# Altium integrated library TI Amplifiers and Linear Special Function Amplifier.IntLib: 708 symbols (part 11 of 47)
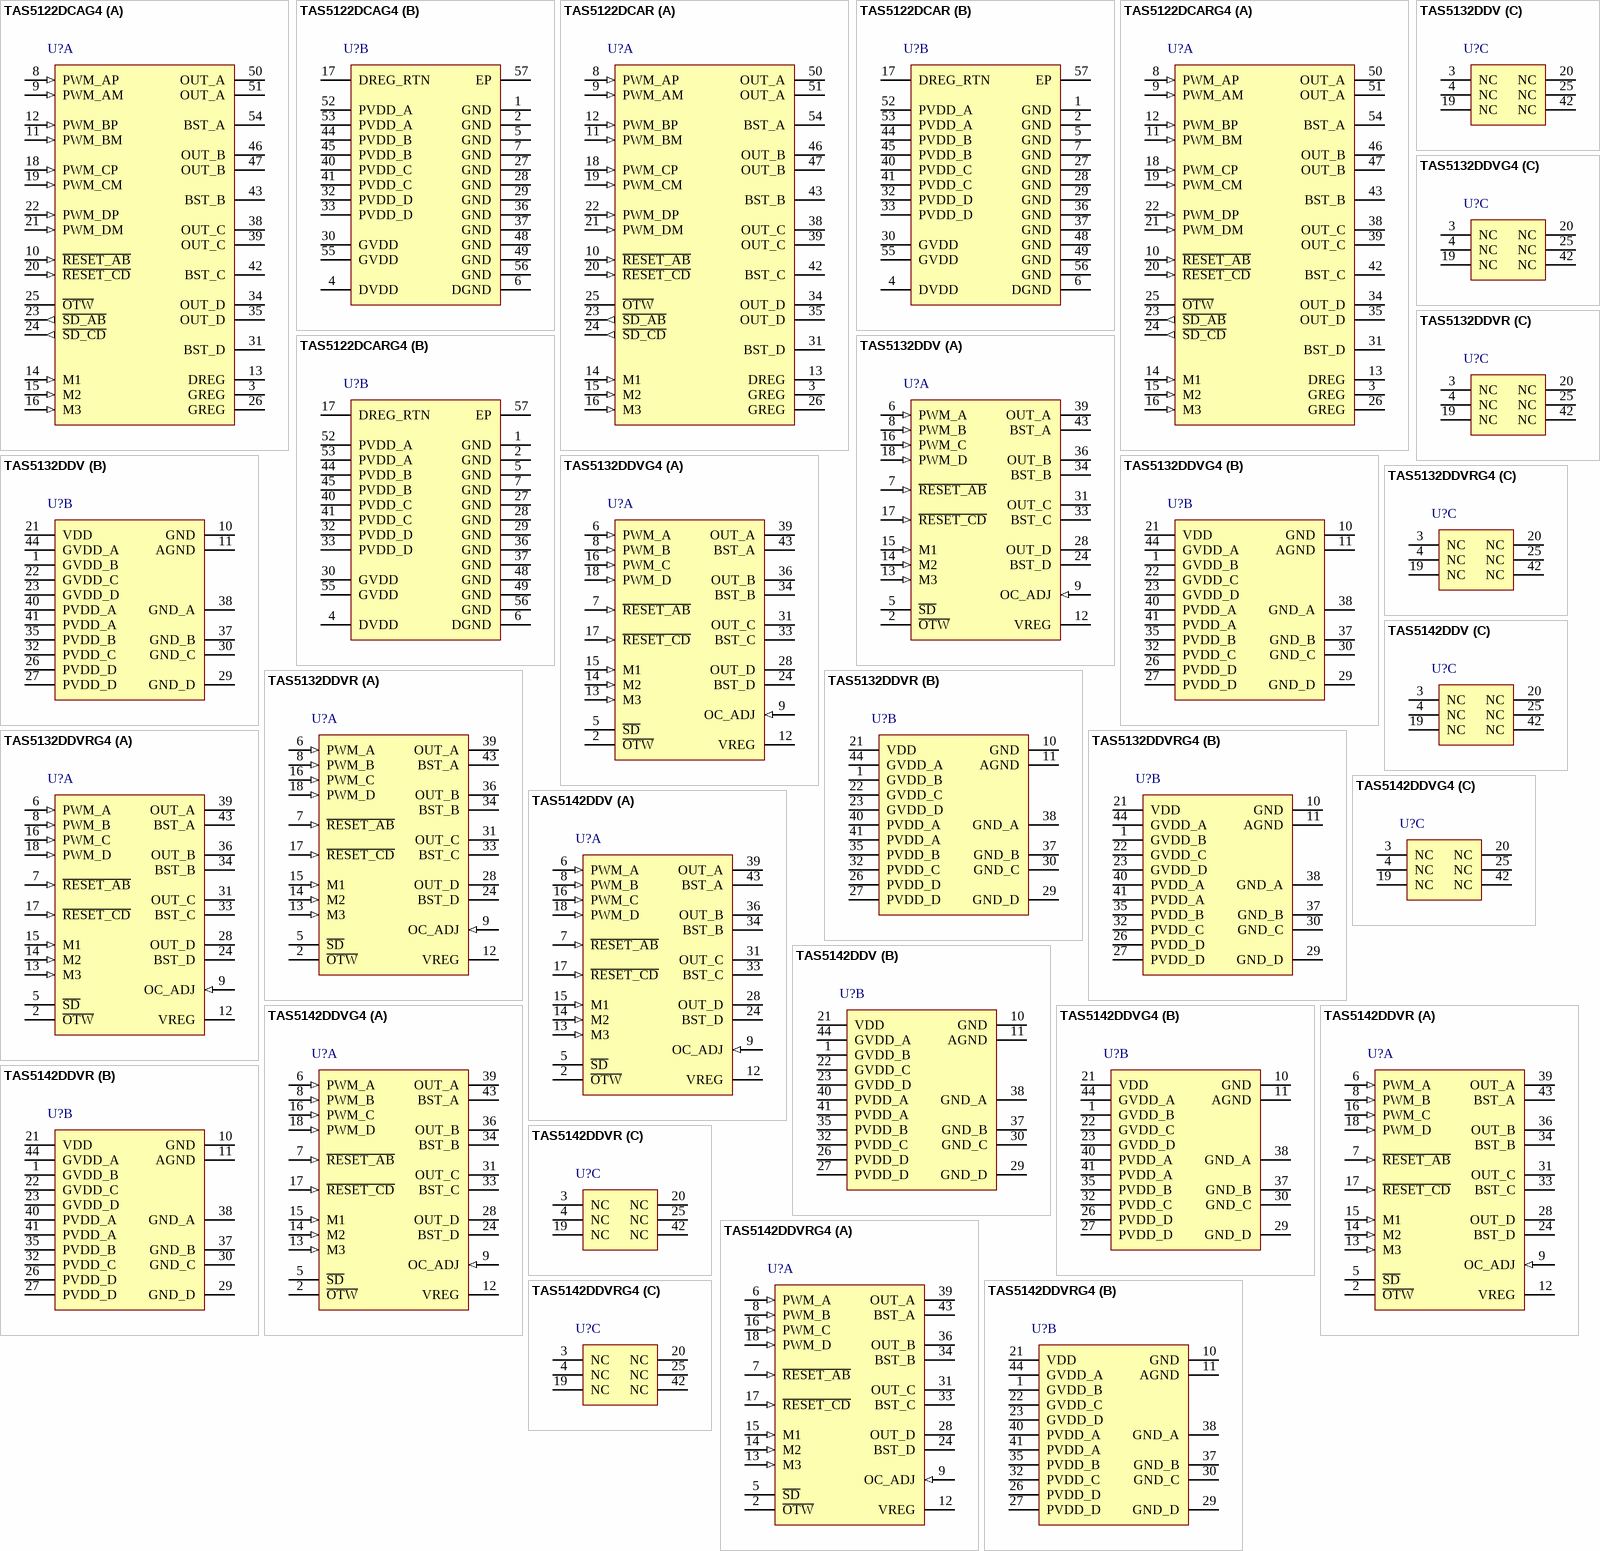
[diagram p49: symbols TAS5122DCAG4 to TAS5142DDVRG4]

## TAS5132DDVRG4
designator U?
20 W Stereo Digital Amplifier Power Stage, 0 to 70 degC, 44-pin SOP (TDDV44), Green (RoHS & no Sb/Br); Manufacturer: Texas Instruments; PartNumber: TAS5132DDVRG4; Analog Supply Max [V]: 13.2; Analog Supply Min [V]: 10.8; Input Type: PWM; Max. Number of Speaker Outputs: 4; SubFamily: Mid/High-Power Amplifier; DatasheetVersion: SLES190; PackageVersion: 4206011/G, 06/2011; PackageReference: TDDV44-5375X2375TP; PackageDescription: 44-Pin Plastic Small Outline, Body 6.1 x 14 mm, Pitch 0.635 mm; Supplier 1: Digi-Key; Supplier Part Number 1: TAS5132DDVRG4-ND; Supplier 2: Newark; Supplier Part Number 2: 28M7695; Supplier 3: Mouser; Supplier Part Number 3: 595-TAS5132DDVRG4; Eco-Plan: Green (RoHS & no Sb/Br); Mounting Technology: Surface Mount; ComponentLink1Description: Manufacturer URL; ComponentLink1URL: http://www.ti.com/; ComponentLink2Description: Datasheet; ComponentLink2URL: http://www.ti.com/general/docs/lit/getliterature.tsp?genericPartNumber=TAS5132&fileType=pdf; ComponentLink3Description: Package Specification; ComponentLink3URL: http://www.ti.com/lit/ds/symlink/tas5132.pdf
footprint TI-DDV44-5375X2375TP_N (SOP, 44-Leads, Body 14x6.1mm, Pitch 0.635mm, Thermal Pad 5.7x2.7mm, IPC Medium Density)
footprint TI-DDV44-5375X2375TP_L (SOP, 44-Leads, Body 14x6.1mm, Pitch 0.635mm, Thermal Pad 5.7x2.7mm, IPC High Density)
footprint TI-DDV44-5375X2375TP_M (SOP, 44-Leads, Body 14x6.1mm, Pitch 0.635mm, Thermal Pad 5.7x2.7mm, IPC Low Density)
part A pins: 2 ~{OTW} (oc) "Overtemperature warning signal, open-drain, active-low", 5 ~{SD} (oc) "Shutdown signal, open-drain, active-low", 6 PWM_A (in) "Input signal for half-bridge A", 7 ~{RESET_AB} (in) "Reset signal for half-bridge A and half-bridge B, active-low", 8 PWM_B (in) "Input signal for half-bridge B", 9 OC_ADJ (in) "Analog overcurrent programming pin requires resistor to ground", 12 VREG "Digital regulator supply filter pin requires 0.1-uFcapacitor to AGND.", 13 M3 (in) "Mode selection pin", 14 M2 (in) "Mode selection pin", 15 M1 (in) "Mode selection pin", 16 PWM_C (in) "Input signal for half-bridge C", 17 ~{RESET_CD} (in) "Reset signal for half-bridge C and half-bridge D, active-low", 18 PWM_D (in) "Input signal for half-bridge D", 24 BST_D "HS bootstrap supply (BST), external capacitor to OUT_D required", 28 OUT_D (hiz) "Output, half-bridge D", 31 OUT_C (hiz) "Output, half-bridge C", 33 BST_C "HS bootstrap supply (BST), external capacitor to OUT_C required", 34 BST_B "HS bootstrap supply (BST), external capacitor to OUT_B required", 36 OUT_B (hiz) "Output, half-bridge B", 39 OUT_A (hiz) "Output, half-bridge A", 43 BST_A "HS bootstrap supply (BST), external capacitor to OUT_A required"
part B pins: 1 GVDD_B (power) "Gate-drive voltage supply requires 0.1-uFcapacitor to AGND", 10 GND (power) "Ground", 11 AGND (power) "Analog ground", 21 VDD (power) "Power supply for digital voltage regulator requires 0.1-uFcapacitor to GND", 22 GVDD_C (power) "Gate-drive voltage supply requires 0.1-uFcapacitor to AGND", 23 GVDD_D (power) "Gate-drive voltage supply requires 0.1-uFcapacitor to AGND", 26 PVDD_D (power) "Power supply input for half-bridge D requires close decoupling of 0.1-uFcapacitor to GND_D.", 27 PVDD_D (power) "Power supply input for half-bridge D requires close decoupling of 0.1-uFcapacitor to GND_D.", 29 GND_D (power) "Power ground for half-bridge D", 30 GND_C (power) "Power ground for half-bridge C", 32 PVDD_C (power) "Power supply input for half-bridge C requires close decoupling of 0.1-uFcapacitor to GND_C.", 35 PVDD_B (power) "Power supply input for half-bridge B requires close decoupling of 0.1-uFcapacitor to GND_B.", 37 GND_B (power) "Power ground for half-bridge B", 38 GND_A (power) "Power ground for half-bridge A", 40 PVDD_A (power) "Power supply input for half-bridge A requires close decoupling of 0.1-uFcapacitor to GND_A.", 41 PVDD_A (power) "Power supply input for half-bridge A requires close decoupling of 0.1-uFcapacitor to GND_A.", 44 GVDD_A (power) "Gate-drive voltage supply requires 0.1-uFcapacitor to AGND"
part C pins: 3 NC "No connect. Pins may be grounded", 4 NC "No connect. Pins may be grounded", 19 NC "No connect. Pins may be grounded", 20 NC "No connect. Pins may be grounded", 25 NC "No connect. Pins may be grounded", 42 NC "No connect. Pins may be grounded"

## TAS5142DDV
designator U?
100 W Stereo Digital Amplifier Power Stage, 0 to 70 degC, 44-pin SOP (DDV44), Green (RoHS & no Sb/Br); Manufacturer: Texas Instruments; PartNumber: TAS5142DDV; Analog Supply Max [V]: 13.2; Analog Supply Min [V]: 10.8; Input Type: PWM; Max. Number of Speaker Outputs: 4; SubFamily: Mid/High-Power Amplifier; DatasheetVersion: SLES126B; PackageVersion: 4206011/G, 06/2011; PackageReference: DDV44-7600X3850TP; PackageDescription: 44-Pin Plastic Small Outline, Body 14 x 6.1 mm, Pitch 0.635 mm; Supplier 1: Digi-Key; Supplier Part Number 1: 296-18033-5-ND; Supplier 2: Newark; Supplier Part Number 2: 33K6866; Supplier 3: Mouser; Supplier Part Number 3: 595-TAS5142DDV; Eco-Plan: Green (RoHS & no Sb/Br); Mounting Technology: Surface Mount; ComponentLink1Description: Manufacturer URL; ComponentLink1URL: http://www.ti.com/; ComponentLink2Description: Datasheet; ComponentLink2URL: http://www.ti.com/general/docs/lit/getliterature.tsp?genericPartNumber=TAS5142&fileType=pdf; ComponentLink3Description: Package Specification; ComponentLink3URL: http://www.ti.com/lit/ds/symlink/tas5142.pdf
footprint TI-DDV44-7600X3850TP _N (SOP, 44-Leads, Body 14x6.1mm, Pitch 0.635mm, Thermal Pad 8.3x4.2mm, IPC Medium Density)
footprint TI-DDV44-7600X3850TP _L (SOP, 44-Leads, Body 14x6.1mm, Pitch 0.635mm, Thermal Pad 8.3x4.2mm, IPC High Density)
footprint TI-DDV44-7600X3850TP _M (SOP, 44-Leads, Body 14x6.1mm, Pitch 0.635mm, Thermal Pad 8.3x4.2mm, IPC Low Density)
part A pins: 2 ~{OTW} (oc) "Overtemperature warning signal, open-drain, active-low", 5 ~{SD} (oc) "Shutdown signal, open-drain, active-low", 6 PWM_A (in) "Input signal for half-bridge A", 7 ~{RESET_AB} (in) "Reset signal for half-bridge A and half-bridge B, active-low", 8 PWM_B (in) "Input signal for half-bridge B", 9 OC_ADJ (in) "Analog overcurrent programming pin", 12 VREG, 13 M3 (in) "Mode selection pin", 14 M2 (in) "Mode selection pin", 15 M1 (in) "Mode selection pin", 16 PWM_C (in) "Input signal for half-bridge C", 17 ~{RESET_CD} (in) "Reset signal for half-bridge C and half-bridge D, active-low", 18 PWM_D (in) "Input signal for half-bridge D", 24 BST_D "Bootstrap pin", 28 OUT_D (hiz) "Output, half-bridge D", 31 OUT_C (hiz) "Output, half-bridge C", 33 BST_C "Bootstrap pin, C-Side", 34 BST_B "Bootstrap pin, B-Side", 36 OUT_B (hiz) "Output, half-bridge B", 39 OUT_A (hiz) "Output, half-bridge A", 43 BST_A "Bootstrap pin, A-Side"
part B pins: 1 GVDD_B (power) "Gate-drive voltage supply", 10 GND (power) "Ground", 11 AGND (power) "Analog ground", 21 VDD (power) "Input power supply", 22 GVDD_C (power) "Gate-drive voltage supply", 23 GVDD_D (power) "Gate-drive voltage supply", 26 PVDD_D (power) "Power supply input for half-bridge D", 27 PVDD_D (power) "Power supply input for half-bridge D", 29 GND_D (power) "Power ground for half-bridge D", 30 GND_C (power) "Power ground for half-bridge C", 32 PVDD_C (power) "Power supply input for half-bridge C", 35 PVDD_B (power) "Power supply input for half-bridge B", 37 GND_B (power) "Power ground for half-bridge B", 38 GND_A (power) "Power ground for half-bridge A", 40 PVDD_A (power) "Power supply input for half-bridge A", 41 PVDD_A (power) "Power supply input for half-bridge A", 44 GVDD_A (power) "Gate-drive voltage supply; A-Side"
part C pins: 3 NC "No connect. Pins may be grounded.", 4 NC "No connect. Pins may be grounded.", 19 NC "No connect. Pins may be grounded.", 20 NC "No connect. Pins may be grounded.", 25 NC "No connect. Pins may be grounded.", 42 NC "No connect. Pins may be grounded."

## TAS5142DDVG4
designator U?
100 W Stereo Digital Amplifier Power Stage, 0 to 70 degC, 44-pin SOP (DDV44), Green (RoHS & no Sb/Br); Manufacturer: Texas Instruments; PartNumber: TAS5142DDVG4; Analog Supply Max [V]: 13.2; Analog Supply Min [V]: 10.8; Input Type: PWM; Max. Number of Speaker Outputs: 4; SubFamily: Mid/High-Power Amplifier; DatasheetVersion: SLES126B; PackageVersion: 4206011/G, 06/2011; PackageReference: DDV44-7600X3850TP; PackageDescription: 44-Pin Plastic Small Outline, Body 14 x 6.1 mm, Pitch 0.635 mm; Supplier 1: Digi-Key; Supplier Part Number 1: TAS5142DDVG4-ND; Supplier 2: Mouser; Supplier Part Number 2: 595-TAS5142DDVG4; Eco-Plan: Green (RoHS & no Sb/Br); Mounting Technology: Surface Mount; ComponentLink1Description: Manufacturer URL; ComponentLink1URL: http://www.ti.com/; ComponentLink2Description: Datasheet; ComponentLink2URL: http://www.ti.com/general/docs/lit/getliterature.tsp?genericPartNumber=TAS5142&fileType=pdf; ComponentLink3Description: Package Specification; ComponentLink3URL: http://www.ti.com/lit/ds/symlink/tas5142.pdf
footprint TI-DDV44-7600X3850TP _N (SOP, 44-Leads, Body 14x6.1mm, Pitch 0.635mm, Thermal Pad 8.3x4.2mm, IPC Medium Density)
footprint TI-DDV44-7600X3850TP _L (SOP, 44-Leads, Body 14x6.1mm, Pitch 0.635mm, Thermal Pad 8.3x4.2mm, IPC High Density)
footprint TI-DDV44-7600X3850TP _M (SOP, 44-Leads, Body 14x6.1mm, Pitch 0.635mm, Thermal Pad 8.3x4.2mm, IPC Low Density)
part A pins: 2 ~{OTW} (oc) "Overtemperature warning signal, open-drain, active-low", 5 ~{SD} (oc) "Shutdown signal, open-drain, active-low", 6 PWM_A (in) "Input signal for half-bridge A", 7 ~{RESET_AB} (in) "Reset signal for half-bridge A and half-bridge B, active-low", 8 PWM_B (in) "Input signal for half-bridge B", 9 OC_ADJ (in) "Analog overcurrent programming pin", 12 VREG, 13 M3 (in) "Mode selection pin", 14 M2 (in) "Mode selection pin", 15 M1 (in) "Mode selection pin", 16 PWM_C (in) "Input signal for half-bridge C", 17 ~{RESET_CD} (in) "Reset signal for half-bridge C and half-bridge D, active-low", 18 PWM_D (in) "Input signal for half-bridge D", 24 BST_D "Bootstrap pin", 28 OUT_D (hiz) "Output, half-bridge D", 31 OUT_C (hiz) "Output, half-bridge C", 33 BST_C "Bootstrap pin, C-Side", 34 BST_B "Bootstrap pin, B-Side", 36 OUT_B (hiz) "Output, half-bridge B", 39 OUT_A (hiz) "Output, half-bridge A", 43 BST_A "Bootstrap pin, A-Side"
part B pins: 1 GVDD_B (power) "Gate-drive voltage supply", 10 GND (power) "Ground", 11 AGND (power) "Analog ground", 21 VDD (power) "Input power supply", 22 GVDD_C (power) "Gate-drive voltage supply", 23 GVDD_D (power) "Gate-drive voltage supply", 26 PVDD_D (power) "Power supply input for half-bridge D", 27 PVDD_D (power) "Power supply input for half-bridge D", 29 GND_D (power) "Power ground for half-bridge D", 30 GND_C (power) "Power ground for half-bridge C", 32 PVDD_C (power) "Power supply input for half-bridge C", 35 PVDD_B (power) "Power supply input for half-bridge B", 37 GND_B (power) "Power ground for half-bridge B", 38 GND_A (power) "Power ground for half-bridge A", 40 PVDD_A (power) "Power supply input for half-bridge A", 41 PVDD_A (power) "Power supply input for half-bridge A", 44 GVDD_A (power) "Gate-drive voltage supply; A-Side"
part C pins: 3 NC "No connect. Pins may be grounded.", 4 NC "No connect. Pins may be grounded.", 19 NC "No connect. Pins may be grounded.", 20 NC "No connect. Pins may be grounded.", 25 NC "No connect. Pins may be grounded.", 42 NC "No connect. Pins may be grounded."

## TAS5142DDVR
designator U?
100 W Stereo Digital Amplifier Power Stage, 0 to 70 degC, 44-pin SOP (DDV44), Green (RoHS & no Sb/Br); Manufacturer: Texas Instruments; PartNumber: TAS5142DDVR; Analog Supply Max [V]: 13.2; Analog Supply Min [V]: 10.8; Input Type: PWM; Max. Number of Speaker Outputs: 4; SubFamily: Mid/High-Power Amplifier; DatasheetVersion: SLES126B; PackageVersion: 4206011/G, 06/2011; PackageReference: DDV44-7600X3850TP; PackageDescription: 44-Pin Plastic Small Outline, Body 14 x 6.1 mm, Pitch 0.635 mm; Supplier 1: Digi-Key; Supplier Part Number 1: TAS5142DDVR-ND; Supplier 2: Newark; Supplier Part Number 2: 33K6868; Supplier 3: Mouser; Supplier Part Number 3: 595-TAS5142DDVR; Eco-Plan: Green (RoHS & no Sb/Br); Mounting Technology: Surface Mount; ComponentLink1Description: Manufacturer URL; ComponentLink1URL: http://www.ti.com/; ComponentLink2Description: Datasheet; ComponentLink2URL: http://www.ti.com/general/docs/lit/getliterature.tsp?genericPartNumber=TAS5142&fileType=pdf; ComponentLink3Description: Package Specification; ComponentLink3URL: http://www.ti.com/lit/ds/symlink/tas5142.pdf
footprint TI-DDV44-7600X3850TP _N (SOP, 44-Leads, Body 14x6.1mm, Pitch 0.635mm, Thermal Pad 8.3x4.2mm, IPC Medium Density)
footprint TI-DDV44-7600X3850TP _L (SOP, 44-Leads, Body 14x6.1mm, Pitch 0.635mm, Thermal Pad 8.3x4.2mm, IPC High Density)
footprint TI-DDV44-7600X3850TP _M (SOP, 44-Leads, Body 14x6.1mm, Pitch 0.635mm, Thermal Pad 8.3x4.2mm, IPC Low Density)
part A pins: 2 ~{OTW} (oc) "Overtemperature warning signal, open-drain, active-low", 5 ~{SD} (oc) "Shutdown signal, open-drain, active-low", 6 PWM_A (in) "Input signal for half-bridge A", 7 ~{RESET_AB} (in) "Reset signal for half-bridge A and half-bridge B, active-low", 8 PWM_B (in) "Input signal for half-bridge B", 9 OC_ADJ (in) "Analog overcurrent programming pin", 12 VREG, 13 M3 (in) "Mode selection pin", 14 M2 (in) "Mode selection pin", 15 M1 (in) "Mode selection pin", 16 PWM_C (in) "Input signal for half-bridge C", 17 ~{RESET_CD} (in) "Reset signal for half-bridge C and half-bridge D, active-low", 18 PWM_D (in) "Input signal for half-bridge D", 24 BST_D "Bootstrap pin", 28 OUT_D (hiz) "Output, half-bridge D", 31 OUT_C (hiz) "Output, half-bridge C", 33 BST_C "Bootstrap pin, C-Side", 34 BST_B "Bootstrap pin, B-Side", 36 OUT_B (hiz) "Output, half-bridge B", 39 OUT_A (hiz) "Output, half-bridge A", 43 BST_A "Bootstrap pin, A-Side"
part B pins: 1 GVDD_B (power) "Gate-drive voltage supply", 10 GND (power) "Ground", 11 AGND (power) "Analog ground", 21 VDD (power) "Input power supply", 22 GVDD_C (power) "Gate-drive voltage supply", 23 GVDD_D (power) "Gate-drive voltage supply", 26 PVDD_D (power) "Power supply input for half-bridge D", 27 PVDD_D (power) "Power supply input for half-bridge D", 29 GND_D (power) "Power ground for half-bridge D", 30 GND_C (power) "Power ground for half-bridge C", 32 PVDD_C (power) "Power supply input for half-bridge C", 35 PVDD_B (power) "Power supply input for half-bridge B", 37 GND_B (power) "Power ground for half-bridge B", 38 GND_A (power) "Power ground for half-bridge A", 40 PVDD_A (power) "Power supply input for half-bridge A", 41 PVDD_A (power) "Power supply input for half-bridge A", 44 GVDD_A (power) "Gate-drive voltage supply; A-Side"
part C pins: 3 NC "No connect. Pins may be grounded.", 4 NC "No connect. Pins may be grounded.", 19 NC "No connect. Pins may be grounded.", 20 NC "No connect. Pins may be grounded.", 25 NC "No connect. Pins may be grounded.", 42 NC "No connect. Pins may be grounded."

## TAS5142DDVRG4
designator U?
100 W Stereo Digital Amplifier Power Stage, 0 to 70 degC, 44-pin SOP (DDV44), Green (RoHS & no Sb/Br); Manufacturer: Texas Instruments; PartNumber: TAS5142DDVRG4; Analog Supply Max [V]: 13.2; Analog Supply Min [V]: 10.8; Input Type: PWM; Max. Number of Speaker Outputs: 4; SubFamily: Mid/High-Power Amplifier; DatasheetVersion: SLES126B; PackageVersion: 4206011/G, 06/2011; PackageReference: DDV44-7600X3850TP; PackageDescription: 44-Pin Plastic Small Outline, Body 14 x 6.1 mm, Pitch 0.635 mm; Supplier 1: Digi-Key; Supplier Part Number 1: TAS5142DDVRG4-ND; Supplier 2: Mouser; Supplier Part Number 2: 595-TAS5142DDVRG4; Eco-Plan: Green (RoHS & no Sb/Br); Mounting Technology: Surface Mount; ComponentLink1Description: Manufacturer URL; ComponentLink1URL: http://www.ti.com/; ComponentLink2Description: Datasheet; ComponentLink2URL: http://www.ti.com/general/docs/lit/getliterature.tsp?genericPartNumber=TAS5142&fileType=pdf; ComponentLink3Description: Package Specification; ComponentLink3URL: http://www.ti.com/lit/ds/symlink/tas5142.pdf
footprint TI-DDV44-7600X3850TP _N (SOP, 44-Leads, Body 14x6.1mm, Pitch 0.635mm, Thermal Pad 8.3x4.2mm, IPC Medium Density)
footprint TI-DDV44-7600X3850TP _L (SOP, 44-Leads, Body 14x6.1mm, Pitch 0.635mm, Thermal Pad 8.3x4.2mm, IPC High Density)
footprint TI-DDV44-7600X3850TP _M (SOP, 44-Leads, Body 14x6.1mm, Pitch 0.635mm, Thermal Pad 8.3x4.2mm, IPC Low Density)
part A pins: 2 ~{OTW} (oc) "Overtemperature warning signal, open-drain, active-low", 5 ~{SD} (oc) "Shutdown signal, open-drain, active-low", 6 PWM_A (in) "Input signal for half-bridge A", 7 ~{RESET_AB} (in) "Reset signal for half-bridge A and half-bridge B, active-low", 8 PWM_B (in) "Input signal for half-bridge B", 9 OC_ADJ (in) "Analog overcurrent programming pin", 12 VREG, 13 M3 (in) "Mode selection pin", 14 M2 (in) "Mode selection pin", 15 M1 (in) "Mode selection pin", 16 PWM_C (in) "Input signal for half-bridge C", 17 ~{RESET_CD} (in) "Reset signal for half-bridge C and half-bridge D, active-low", 18 PWM_D (in) "Input signal for half-bridge D", 24 BST_D "Bootstrap pin", 28 OUT_D (hiz) "Output, half-bridge D", 31 OUT_C (hiz) "Output, half-bridge C", 33 BST_C "Bootstrap pin, C-Side", 34 BST_B "Bootstrap pin, B-Side", 36 OUT_B (hiz) "Output, half-bridge B", 39 OUT_A (hiz) "Output, half-bridge A", 43 BST_A "Bootstrap pin, A-Side"
part B pins: 1 GVDD_B (power) "Gate-drive voltage supply", 10 GND (power) "Ground", 11 AGND (power) "Analog ground", 21 VDD (power) "Input power supply", 22 GVDD_C (power) "Gate-drive voltage supply", 23 GVDD_D (power) "Gate-drive voltage supply", 26 PVDD_D (power) "Power supply input for half-bridge D", 27 PVDD_D (power) "Power supply input for half-bridge D", 29 GND_D (power) "Power ground for half-bridge D", 30 GND_C (power) "Power ground for half-bridge C", 32 PVDD_C (power) "Power supply input for half-bridge C", 35 PVDD_B (power) "Power supply input for half-bridge B", 37 GND_B (power) "Power ground for half-bridge B", 38 GND_A (power) "Power ground for half-bridge A", 40 PVDD_A (power) "Power supply input for half-bridge A", 41 PVDD_A (power) "Power supply input for half-bridge A", 44 GVDD_A (power) "Gate-drive voltage supply; A-Side"
part C pins: 3 NC "No connect. Pins may be grounded.", 4 NC "No connect. Pins may be grounded.", 19 NC "No connect. Pins may be grounded.", 20 NC "No connect. Pins may be grounded.", 25 NC "No connect. Pins may be grounded.", 42 NC "No connect. Pins may be grounded."

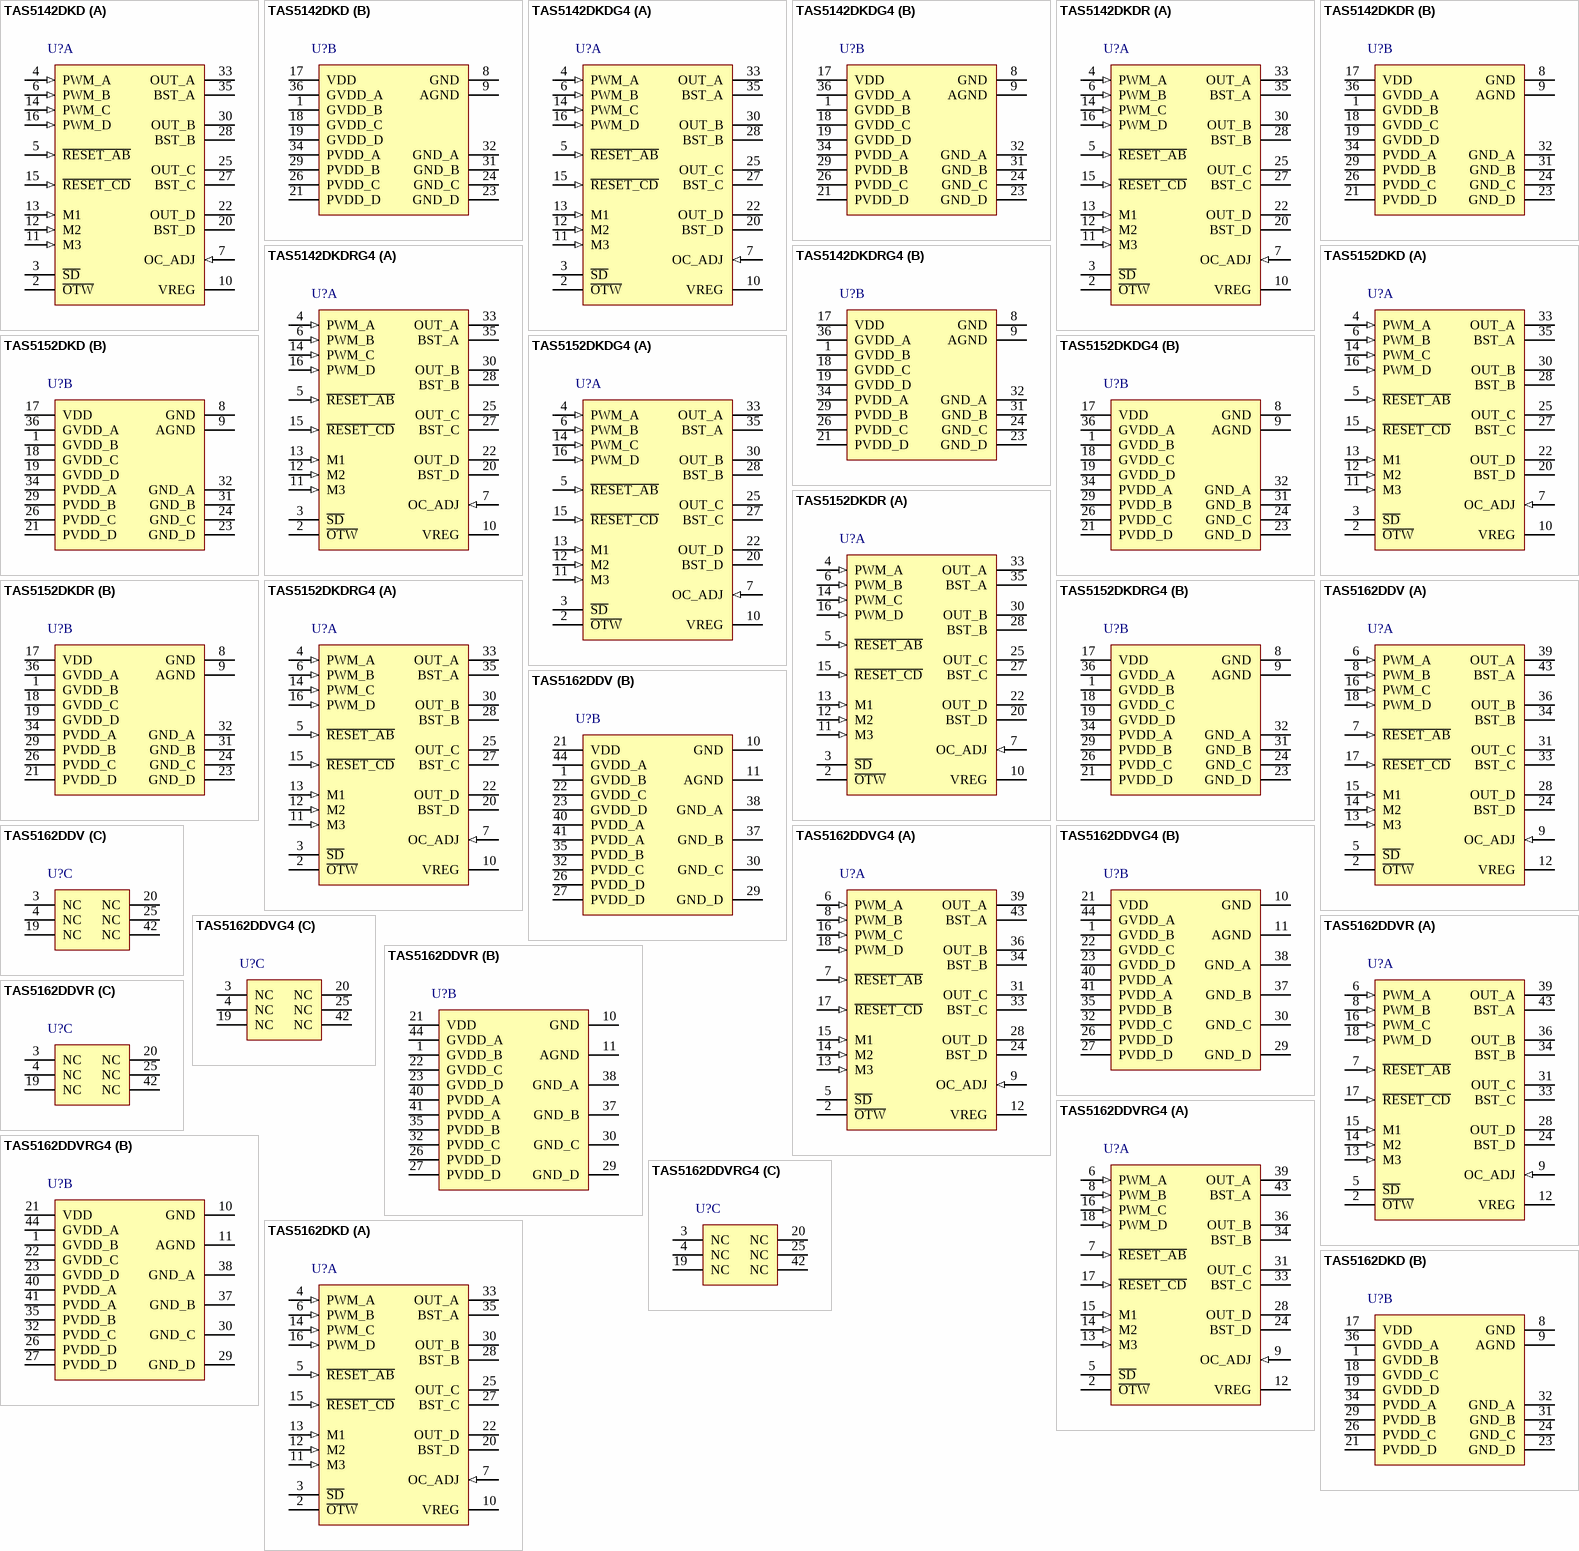
[diagram p10: symbols TAS5142DKD to TAS5162DKD]

## TAS5142DKD
designator U?
100 W Stereo Digital Amplifier Power Stage, 0 to 70 degC, 36-pin SOP (DKD36), Green (RoHS & no Sb/Br); Manufacturer: Texas Instruments; PartNumber: TAS5142DKD; Analog Supply Max [V]: 13.2; Analog Supply Min [V]: 10.8; Input Type: PWM; Max. Number of Speaker Outputs: 4; SubFamily: Mid/High-Power Amplifier; DatasheetVersion: SLES126B; PackageVersion: 4204421-2/K, 06/2012; PackageReference: DKD36; PackageDescription: 36-Pin Plastic Small Outline, Body 15.9 x 11 mm, Pitch 0.65 mm; Supplier 1: Digi-Key; Supplier Part Number 1: 296-17861-5-ND; Supplier 2: Newark; Supplier Part Number 2: 24K4913; Supplier 3: Mouser; Supplier Part Number 3: 595-TAS5142DKD; Eco-Plan: Green (RoHS & no Sb/Br); Mounting Technology: Surface Mount; ComponentLink1Description: Manufacturer URL; ComponentLink1URL: http://www.ti.com/; ComponentLink2Description: Datasheet; ComponentLink2URL: http://www.ti.com/general/docs/lit/getliterature.tsp?genericPartNumber=TAS5142&fileType=pdf; ComponentLink3Description: Package Specification; ComponentLink3URL: http://www.ti.com/lit/ds/symlink/tas5121i.pdf
footprint TI-DKD36_N (SOP, 36-Leads, Body 16x11.1mm, Pitch 0.65mm, IPC Medium Density)
footprint TI-DKD36_L (SOP, 36-Leads, Body 16x11.1mm, Pitch 0.65mm, IPC High Density)
footprint TI-DKD36_M (SOP, 36-Leads, Body 16x11.1mm, Pitch 0.65mm, IPC Low Density)
part A pins: 2 ~{OTW} (oc) "Overtemperature warning signal, open-drain, active-low", 3 ~{SD} (oc) "Shutdown signal, open-drain, active-low", 4 PWM_A (in) "Input signal for half-bridge A", 5 ~{RESET_AB} (in) "Reset signal for half-bridge A and half-bridge B, active-low", 6 PWM_B (in) "Input signal for half-bridge B", 7 OC_ADJ (in) "Analog overcurrent programming pin requires resistor to ground", 10 VREG "Digital regulator supply filter pin requires 0.1-uFcapacitor to AGND.", 11 M3 (in) "Mode selection pin", 12 M2 (in) "Mode selection pin", 13 M1 (in) "Mode selection pin", 14 PWM_C (in) "Input signal for half-bridge C", 15 ~{RESET_CD} (in) "Reset signal for half-bridge C and half-bridge D, active-low", 16 PWM_D (in) "Input signal for half-bridge D", 20 BST_D "HS bootstrap supply (BST), external capacitor to OUT_D required", 22 OUT_D (hiz) "Output, half-bridge D", 25 OUT_C (hiz) "Output, half-bridge C", 27 BST_C "HS bootstrap supply (BST), external capacitor to OUT_C required", 28 BST_B "HS bootstrap supply (BST), external capacitor to OUT_B required", 30 OUT_B (hiz) "Output, half-bridge B", 33 OUT_A (hiz) "Output, half-bridge A", 35 BST_A "HS bootstrap supply (BST), external capacitor to OUT_A required"
part B pins: 1 GVDD_B (power) "Gate-drive voltage supply requires 0.1-uFcapacitor to AGND", 8 GND (power) "Ground", 9 AGND (power) "Analog ground", 17 VDD (power) "Power supply for digital voltage regulator requires 0.1-uFcapacitor to GND", 18 GVDD_C (power) "Gate-drive voltage supply requires 0.1-uFcapacitor to AGND", 19 GVDD_D (power) "Gate-drive voltage supply requires 0.1-uFcapacitor to AGND", 21 PVDD_D (power) "Power supply input for half-bridge D requires close decoupling of 0.1-uFcapacitor to GND_D.", 23 GND_D (power) "Power ground for half-bridge D", 24 GND_C (power) "Power ground for half-bridge C", 26 PVDD_C (power) "Power supply input for half-bridge C requires close decoupling of 0.1-uFcapacitor to GND_C.", 29 PVDD_B (power) "Power supply input for half-bridge B requires close decoupling of 0.1-uFcapacitor to GND_B.", 31 GND_B (power) "Power ground for half-bridge B", 32 GND_A (power) "Power ground for half-bridge A", 34 PVDD_A (power) "Power supply input for half-bridge A requires close decoupling of 0.1-uFcapacitor to GND_A.", 36 GVDD_A (power) "Gate-drive voltage supply requires 0.1-uFcapacitor to AGND"

## TAS5142DKDG4
designator U?
100 W Stereo Digital Amplifier Power Stage, 0 to 70 degC, 36-pin SOP (DKD36), Green (RoHS & no Sb/Br); Manufacturer: Texas Instruments; PartNumber: TAS5142DKDG4; Analog Supply Max [V]: 13.2; Analog Supply Min [V]: 10.8; Input Type: PWM; Max. Number of Speaker Outputs: 4; SubFamily: Mid/High-Power Amplifier; DatasheetVersion: SLES126B; PackageVersion: 4204421-2/K, 06/2012; PackageReference: DKD36; PackageDescription: 36-Pin Plastic Small Outline, Body 15.9 x 11 mm, Pitch 0.65 mm; Supplier 1: Digi-Key; Supplier Part Number 1: TAS5142DKDG4-ND; Supplier 2: Newark; Supplier Part Number 2: 18M7773; Supplier 3: Mouser; Supplier Part Number 3: 595-TAS5142DKDG4; Eco-Plan: Green (RoHS & no Sb/Br); Mounting Technology: Surface Mount; ComponentLink1Description: Manufacturer URL; ComponentLink1URL: http://www.ti.com/; ComponentLink2Description: Datasheet; ComponentLink2URL: http://www.ti.com/general/docs/lit/getliterature.tsp?genericPartNumber=TAS5142&fileType=pdf; ComponentLink3Description: Package Specification; ComponentLink3URL: http://www.ti.com/lit/ds/symlink/tas5121i.pdf
footprint TI-DKD36_N (SOP, 36-Leads, Body 16x11.1mm, Pitch 0.65mm, IPC Medium Density)
footprint TI-DKD36_L (SOP, 36-Leads, Body 16x11.1mm, Pitch 0.65mm, IPC High Density)
footprint TI-DKD36_M (SOP, 36-Leads, Body 16x11.1mm, Pitch 0.65mm, IPC Low Density)
part A pins: 2 ~{OTW} (oc) "Overtemperature warning signal, open-drain, active-low", 3 ~{SD} (oc) "Shutdown signal, open-drain, active-low", 4 PWM_A (in) "Input signal for half-bridge A", 5 ~{RESET_AB} (in) "Reset signal for half-bridge A and half-bridge B, active-low", 6 PWM_B (in) "Input signal for half-bridge B", 7 OC_ADJ (in) "Analog overcurrent programming pin requires resistor to ground", 10 VREG "Digital regulator supply filter pin requires 0.1-uFcapacitor to AGND.", 11 M3 (in) "Mode selection pin", 12 M2 (in) "Mode selection pin", 13 M1 (in) "Mode selection pin", 14 PWM_C (in) "Input signal for half-bridge C", 15 ~{RESET_CD} (in) "Reset signal for half-bridge C and half-bridge D, active-low", 16 PWM_D (in) "Input signal for half-bridge D", 20 BST_D "HS bootstrap supply (BST), external capacitor to OUT_D required", 22 OUT_D (hiz) "Output, half-bridge D", 25 OUT_C (hiz) "Output, half-bridge C", 27 BST_C "HS bootstrap supply (BST), external capacitor to OUT_C required", 28 BST_B "HS bootstrap supply (BST), external capacitor to OUT_B required", 30 OUT_B (hiz) "Output, half-bridge B", 33 OUT_A (hiz) "Output, half-bridge A", 35 BST_A "HS bootstrap supply (BST), external capacitor to OUT_A required"
part B pins: 1 GVDD_B (power) "Gate-drive voltage supply requires 0.1-uFcapacitor to AGND", 8 GND (power) "Ground", 9 AGND (power) "Analog ground", 17 VDD (power) "Power supply for digital voltage regulator requires 0.1-uFcapacitor to GND", 18 GVDD_C (power) "Gate-drive voltage supply requires 0.1-uFcapacitor to AGND", 19 GVDD_D (power) "Gate-drive voltage supply requires 0.1-uFcapacitor to AGND", 21 PVDD_D (power) "Power supply input for half-bridge D requires close decoupling of 0.1-uFcapacitor to GND_D.", 23 GND_D (power) "Power ground for half-bridge D", 24 GND_C (power) "Power ground for half-bridge C", 26 PVDD_C (power) "Power supply input for half-bridge C requires close decoupling of 0.1-uFcapacitor to GND_C.", 29 PVDD_B (power) "Power supply input for half-bridge B requires close decoupling of 0.1-uFcapacitor to GND_B.", 31 GND_B (power) "Power ground for half-bridge B", 32 GND_A (power) "Power ground for half-bridge A", 34 PVDD_A (power) "Power supply input for half-bridge A requires close decoupling of 0.1-uFcapacitor to GND_A.", 36 GVDD_A (power) "Gate-drive voltage supply requires 0.1-uFcapacitor to AGND"

## TAS5142DKDR
designator U?
100 W Stereo Digital Amplifier Power Stage, 0 to 70 degC, 36-pin SOP (DKD36), Green (RoHS & no Sb/Br); Manufacturer: Texas Instruments; PartNumber: TAS5142DKDR; Analog Supply Max [V]: 13.2; Analog Supply Min [V]: 10.8; Input Type: PWM; Max. Number of Speaker Outputs: 4; SubFamily: Mid/High-Power Amplifier; DatasheetVersion: SLES126B; PackageVersion: 4204421-2/K, 06/2012; PackageReference: DKD36; PackageDescription: 36-Pin Plastic Small Outline, Body 15.9 x 11 mm, Pitch 0.65 mm; Supplier 1: Digi-Key; Supplier Part Number 1: TAS5142DKDR-ND; Supplier 2: Newark; Supplier Part Number 2: 24K4914; Supplier 3: Mouser; Supplier Part Number 3: 595-TAS5142DKDR; Eco-Plan: Green (RoHS & no Sb/Br); Mounting Technology: Surface Mount; ComponentLink1Description: Manufacturer URL; ComponentLink1URL: http://www.ti.com/; ComponentLink2Description: Datasheet; ComponentLink2URL: http://www.ti.com/general/docs/lit/getliterature.tsp?genericPartNumber=TAS5142&fileType=pdf; ComponentLink3Description: Package Specification; ComponentLink3URL: http://www.ti.com/lit/ds/symlink/tas5121i.pdf
footprint TI-DKD36_N (SOP, 36-Leads, Body 16x11.1mm, Pitch 0.65mm, IPC Medium Density)
footprint TI-DKD36_L (SOP, 36-Leads, Body 16x11.1mm, Pitch 0.65mm, IPC High Density)
footprint TI-DKD36_M (SOP, 36-Leads, Body 16x11.1mm, Pitch 0.65mm, IPC Low Density)
part A pins: 2 ~{OTW} (oc) "Overtemperature warning signal, open-drain, active-low", 3 ~{SD} (oc) "Shutdown signal, open-drain, active-low", 4 PWM_A (in) "Input signal for half-bridge A", 5 ~{RESET_AB} (in) "Reset signal for half-bridge A and half-bridge B, active-low", 6 PWM_B (in) "Input signal for half-bridge B", 7 OC_ADJ (in) "Analog overcurrent programming pin requires resistor to ground", 10 VREG "Digital regulator supply filter pin requires 0.1-uFcapacitor to AGND.", 11 M3 (in) "Mode selection pin", 12 M2 (in) "Mode selection pin", 13 M1 (in) "Mode selection pin", 14 PWM_C (in) "Input signal for half-bridge C", 15 ~{RESET_CD} (in) "Reset signal for half-bridge C and half-bridge D, active-low", 16 PWM_D (in) "Input signal for half-bridge D", 20 BST_D "HS bootstrap supply (BST), external capacitor to OUT_D required", 22 OUT_D (hiz) "Output, half-bridge D", 25 OUT_C (hiz) "Output, half-bridge C", 27 BST_C "HS bootstrap supply (BST), external capacitor to OUT_C required", 28 BST_B "HS bootstrap supply (BST), external capacitor to OUT_B required", 30 OUT_B (hiz) "Output, half-bridge B", 33 OUT_A (hiz) "Output, half-bridge A", 35 BST_A "HS bootstrap supply (BST), external capacitor to OUT_A required"
part B pins: 1 GVDD_B (power) "Gate-drive voltage supply requires 0.1-uFcapacitor to AGND", 8 GND (power) "Ground", 9 AGND (power) "Analog ground", 17 VDD (power) "Power supply for digital voltage regulator requires 0.1-uFcapacitor to GND", 18 GVDD_C (power) "Gate-drive voltage supply requires 0.1-uFcapacitor to AGND", 19 GVDD_D (power) "Gate-drive voltage supply requires 0.1-uFcapacitor to AGND", 21 PVDD_D (power) "Power supply input for half-bridge D requires close decoupling of 0.1-uFcapacitor to GND_D.", 23 GND_D (power) "Power ground for half-bridge D", 24 GND_C (power) "Power ground for half-bridge C", 26 PVDD_C (power) "Power supply input for half-bridge C requires close decoupling of 0.1-uFcapacitor to GND_C.", 29 PVDD_B (power) "Power supply input for half-bridge B requires close decoupling of 0.1-uFcapacitor to GND_B.", 31 GND_B (power) "Power ground for half-bridge B", 32 GND_A (power) "Power ground for half-bridge A", 34 PVDD_A (power) "Power supply input for half-bridge A requires close decoupling of 0.1-uFcapacitor to GND_A.", 36 GVDD_A (power) "Gate-drive voltage supply requires 0.1-uFcapacitor to AGND"

## TAS5142DKDRG4
designator U?
100 W Stereo Digital Amplifier Power Stage, 0 to 70 degC, 36-pin SOP (DKD36), Green (RoHS & no Sb/Br); Manufacturer: Texas Instruments; PartNumber: TAS5142DKDRG4; Analog Supply Max [V]: 13.2; Analog Supply Min [V]: 10.8; Input Type: PWM; Max. Number of Speaker Outputs: 4; SubFamily: Mid/High-Power Amplifier; DatasheetVersion: SLES126B; PackageVersion: 4204421-2/K, 06/2012; PackageReference: DKD36; PackageDescription: 36-Pin Plastic Small Outline, Body 15.9 x 11 mm, Pitch 0.65 mm; Supplier 1: Digi-Key; Supplier Part Number 1: TAS5142DKDRG4-ND; Supplier 2: Mouser; Supplier Part Number 2: 595-TAS5142DKDRG4; Eco-Plan: Green (RoHS & no Sb/Br); Mounting Technology: Surface Mount; ComponentLink1Description: Manufacturer URL; ComponentLink1URL: http://www.ti.com/; ComponentLink2Description: Datasheet; ComponentLink2URL: http://www.ti.com/general/docs/lit/getliterature.tsp?genericPartNumber=TAS5142&fileType=pdf; ComponentLink3Description: Package Specification; ComponentLink3URL: http://www.ti.com/lit/ds/symlink/tas5121i.pdf
footprint TI-DKD36_N (SOP, 36-Leads, Body 16x11.1mm, Pitch 0.65mm, IPC Medium Density)
footprint TI-DKD36_L (SOP, 36-Leads, Body 16x11.1mm, Pitch 0.65mm, IPC High Density)
footprint TI-DKD36_M (SOP, 36-Leads, Body 16x11.1mm, Pitch 0.65mm, IPC Low Density)
part A pins: 2 ~{OTW} (oc) "Overtemperature warning signal, open-drain, active-low", 3 ~{SD} (oc) "Shutdown signal, open-drain, active-low", 4 PWM_A (in) "Input signal for half-bridge A", 5 ~{RESET_AB} (in) "Reset signal for half-bridge A and half-bridge B, active-low", 6 PWM_B (in) "Input signal for half-bridge B", 7 OC_ADJ (in) "Analog overcurrent programming pin requires resistor to ground", 10 VREG "Digital regulator supply filter pin requires 0.1-uFcapacitor to AGND.", 11 M3 (in) "Mode selection pin", 12 M2 (in) "Mode selection pin", 13 M1 (in) "Mode selection pin", 14 PWM_C (in) "Input signal for half-bridge C", 15 ~{RESET_CD} (in) "Reset signal for half-bridge C and half-bridge D, active-low", 16 PWM_D (in) "Input signal for half-bridge D", 20 BST_D "HS bootstrap supply (BST), external capacitor to OUT_D required", 22 OUT_D (hiz) "Output, half-bridge D", 25 OUT_C (hiz) "Output, half-bridge C", 27 BST_C "HS bootstrap supply (BST), external capacitor to OUT_C required", 28 BST_B "HS bootstrap supply (BST), external capacitor to OUT_B required", 30 OUT_B (hiz) "Output, half-bridge B", 33 OUT_A (hiz) "Output, half-bridge A", 35 BST_A "HS bootstrap supply (BST), external capacitor to OUT_A required"
part B pins: 1 GVDD_B (power) "Gate-drive voltage supply requires 0.1-uFcapacitor to AGND", 8 GND (power) "Ground", 9 AGND (power) "Analog ground", 17 VDD (power) "Power supply for digital voltage regulator requires 0.1-uFcapacitor to GND", 18 GVDD_C (power) "Gate-drive voltage supply requires 0.1-uFcapacitor to AGND", 19 GVDD_D (power) "Gate-drive voltage supply requires 0.1-uFcapacitor to AGND", 21 PVDD_D (power) "Power supply input for half-bridge D requires close decoupling of 0.1-uFcapacitor to GND_D.", 23 GND_D (power) "Power ground for half-bridge D", 24 GND_C (power) "Power ground for half-bridge C", 26 PVDD_C (power) "Power supply input for half-bridge C requires close decoupling of 0.1-uFcapacitor to GND_C.", 29 PVDD_B (power) "Power supply input for half-bridge B requires close decoupling of 0.1-uFcapacitor to GND_B.", 31 GND_B (power) "Power ground for half-bridge B", 32 GND_A (power) "Power ground for half-bridge A", 34 PVDD_A (power) "Power supply input for half-bridge A requires close decoupling of 0.1-uFcapacitor to GND_A.", 36 GVDD_A (power) "Gate-drive voltage supply requires 0.1-uFcapacitor to AGND"

## TAS5152DKD
designator U?
125 W Stereo Digital Amplifier Power Stage, 0 to 70 degC, 36-pin SOP (DKD36), Green (RoHS & no Sb/Br); Manufacturer: Texas Instruments; PartNumber: TAS5152DKD; Analog Supply Max [V]: 13.2; Analog Supply Min [V]: 10.8; Input Type: PWM; Max. Number of Speaker Outputs: 4; SubFamily: Mid/High-Power Amplifier; DatasheetVersion: SLES127A; PackageVersion: 4204421-2/K, 06/2012; PackageReference: DKD36; PackageDescription: 36-Pin Plastic Small Outline, Body 15.9 x 11 mm, Pitch 0.65 mm; Supplier 1: Digi-Key; Supplier Part Number 1: 296-17901-5-ND; Supplier 2: Newark; Supplier Part Number 2: 24K4915; Supplier 3: Mouser; Supplier Part Number 3: 595-TAS5152DKD; Eco-Plan: Green (RoHS & no Sb/Br); Mounting Technology: Surface Mount; ComponentLink1Description: Manufacturer URL; ComponentLink1URL: http://www.ti.com/; ComponentLink2Description: Datasheet; ComponentLink2URL: http://www.ti.com/general/docs/lit/getliterature.tsp?genericPartNumber=TAS5152&fileType=pdf; ComponentLink3Description: Package Specification; ComponentLink3URL: http://www.ti.com/lit/ds/symlink/tas5121i.pdf
footprint TI-DKD36_N (SOP, 36-Leads, Body 16x11.1mm, Pitch 0.65mm, IPC Medium Density)
footprint TI-DKD36_L (SOP, 36-Leads, Body 16x11.1mm, Pitch 0.65mm, IPC High Density)
footprint TI-DKD36_M (SOP, 36-Leads, Body 16x11.1mm, Pitch 0.65mm, IPC Low Density)
part A pins: 2 ~{OTW} (oc) "Overtemperature warning signal, open-drain, active-low", 3 ~{SD} (oc) "Shutdown signal, open-drain, active-low", 4 PWM_A (in) "Input signal for half-bridge A", 5 ~{RESET_AB} (in) "Reset signal for half-bridge A and half-bridge B, active-low", 6 PWM_B (in) "Input signal for half-bridge B", 7 OC_ADJ (in) "Analog overcurrent programming pin requires resistor to ground", 10 VREG "Digital regulator supply filter pin requires 0.1-uFcapacitor to AGND.", 11 M3 (in) "Mode selection pin", 12 M2 (in) "Mode selection pin", 13 M1 (in) "Mode selection pin", 14 PWM_C (in) "Input signal for half-bridge C", 15 ~{RESET_CD} (in) "Reset signal for half-bridge C and half-bridge D, active-low", 16 PWM_D (in) "Input signal for half-bridge D", 20 BST_D "HS bootstrap supply (BST), external capacitor to OUT_D required", 22 OUT_D (hiz) "Output, half-bridge D", 25 OUT_C (hiz) "Output, half-bridge C", 27 BST_C "HS bootstrap supply (BST), external capacitor to OUT_C required", 28 BST_B "HS bootstrap supply (BST), external capacitor to OUT_B required", 30 OUT_B (hiz) "Output, half-bridge B", 33 OUT_A (hiz) "Output, half-bridge A", 35 BST_A "HS bootstrap supply (BST), external capacitor to OUT_A required"
part B pins: 1 GVDD_B (power) "Gate-drive voltage supply requires 0.1-uFcapacitor to AGND", 8 GND (power) "Ground", 9 AGND (power) "Analog ground", 17 VDD (power) "Power supply for digital voltage regulator requires 0.1-uFcapacitor to GND", 18 GVDD_C (power) "Gate-drive voltage supply requires 0.1-uFcapacitor to AGND", 19 GVDD_D (power) "Gate-drive voltage supply requires 0.1-uFcapacitor to AGND", 21 PVDD_D (power) "Power supply input for half-bridge D requires close decoupling of 0.1-uFcapacitor to GND_D.", 23 GND_D (power) "Power ground for half-bridge D", 24 GND_C (power) "Power ground for half-bridge C", 26 PVDD_C (power) "Power supply input for half-bridge C requires close decoupling of 0.1-uFcapacitor to GND_C.", 29 PVDD_B (power) "Power supply input for half-bridge B requires close decoupling of 0.1-uFcapacitor to GND_B.", 31 GND_B (power) "Power ground for half-bridge B", 32 GND_A (power) "Power ground for half-bridge A", 34 PVDD_A (power) "Power supply input for half-bridge A requires close decoupling of 0.1-uFcapacitor to GND_A.", 36 GVDD_A (power) "Gate-drive voltage supply requires 0.1-uFcapacitor to AGND"

## TAS5152DKDG4
designator U?
125 W Stereo Digital Amplifier Power Stage, 0 to 70 degC, 36-pin SOP (DKD36), Green (RoHS & no Sb/Br); Manufacturer: Texas Instruments; PartNumber: TAS5152DKDG4; Analog Supply Max [V]: 13.2; Analog Supply Min [V]: 10.8; Input Type: PWM; Max. Number of Speaker Outputs: 4; SubFamily: Mid/High-Power Amplifier; DatasheetVersion: SLES127A; PackageVersion: 4204421-2/K, 06/2012; PackageReference: DKD36; PackageDescription: 36-Pin Plastic Small Outline, Body 15.9 x 11 mm, Pitch 0.65 mm; Supplier 1: Digi-Key; Supplier Part Number 1: TAS5152DKDG4-ND; Supplier 2: Mouser; Supplier Part Number 2: 595-TAS5152DKDG4; Eco-Plan: Green (RoHS & no Sb/Br); Mounting Technology: Surface Mount; ComponentLink1Description: Manufacturer URL; ComponentLink1URL: http://www.ti.com/; ComponentLink2Description: Datasheet; ComponentLink2URL: http://www.ti.com/general/docs/lit/getliterature.tsp?genericPartNumber=TAS5152&fileType=pdf; ComponentLink3Description: Package Specification; ComponentLink3URL: http://www.ti.com/lit/ds/symlink/tas5121i.pdf
footprint TI-DKD36_N (SOP, 36-Leads, Body 16x11.1mm, Pitch 0.65mm, IPC Medium Density)
footprint TI-DKD36_L (SOP, 36-Leads, Body 16x11.1mm, Pitch 0.65mm, IPC High Density)
footprint TI-DKD36_M (SOP, 36-Leads, Body 16x11.1mm, Pitch 0.65mm, IPC Low Density)
part A pins: 2 ~{OTW} (oc) "Overtemperature warning signal, open-drain, active-low", 3 ~{SD} (oc) "Shutdown signal, open-drain, active-low", 4 PWM_A (in) "Input signal for half-bridge A", 5 ~{RESET_AB} (in) "Reset signal for half-bridge A and half-bridge B, active-low", 6 PWM_B (in) "Input signal for half-bridge B", 7 OC_ADJ (in) "Analog overcurrent programming pin requires resistor to ground", 10 VREG "Digital regulator supply filter pin requires 0.1-uFcapacitor to AGND.", 11 M3 (in) "Mode selection pin", 12 M2 (in) "Mode selection pin", 13 M1 (in) "Mode selection pin", 14 PWM_C (in) "Input signal for half-bridge C", 15 ~{RESET_CD} (in) "Reset signal for half-bridge C and half-bridge D, active-low", 16 PWM_D (in) "Input signal for half-bridge D", 20 BST_D "HS bootstrap supply (BST), external capacitor to OUT_D required", 22 OUT_D (hiz) "Output, half-bridge D", 25 OUT_C (hiz) "Output, half-bridge C", 27 BST_C "HS bootstrap supply (BST), external capacitor to OUT_C required", 28 BST_B "HS bootstrap supply (BST), external capacitor to OUT_B required", 30 OUT_B (hiz) "Output, half-bridge B", 33 OUT_A (hiz) "Output, half-bridge A", 35 BST_A "HS bootstrap supply (BST), external capacitor to OUT_A required"
part B pins: 1 GVDD_B (power) "Gate-drive voltage supply requires 0.1-uFcapacitor to AGND", 8 GND (power) "Ground", 9 AGND (power) "Analog ground", 17 VDD (power) "Power supply for digital voltage regulator requires 0.1-uFcapacitor to GND", 18 GVDD_C (power) "Gate-drive voltage supply requires 0.1-uFcapacitor to AGND", 19 GVDD_D (power) "Gate-drive voltage supply requires 0.1-uFcapacitor to AGND", 21 PVDD_D (power) "Power supply input for half-bridge D requires close decoupling of 0.1-uFcapacitor to GND_D.", 23 GND_D (power) "Power ground for half-bridge D", 24 GND_C (power) "Power ground for half-bridge C", 26 PVDD_C (power) "Power supply input for half-bridge C requires close decoupling of 0.1-uFcapacitor to GND_C.", 29 PVDD_B (power) "Power supply input for half-bridge B requires close decoupling of 0.1-uFcapacitor to GND_B.", 31 GND_B (power) "Power ground for half-bridge B", 32 GND_A (power) "Power ground for half-bridge A", 34 PVDD_A (power) "Power supply input for half-bridge A requires close decoupling of 0.1-uFcapacitor to GND_A.", 36 GVDD_A (power) "Gate-drive voltage supply requires 0.1-uFcapacitor to AGND"

## TAS5152DKDR
designator U?
125 W Stereo Digital Amplifier Power Stage, 0 to 70 degC, 36-pin SOP (DKD36), Green (RoHS & no Sb/Br); Manufacturer: Texas Instruments; PartNumber: TAS5152DKDR; Analog Supply Max [V]: 13.2; Analog Supply Min [V]: 10.8; Input Type: PWM; Max. Number of Speaker Outputs: 4; SubFamily: Mid/High-Power Amplifier; DatasheetVersion: SLES127A; PackageVersion: 4204421-2/K, 06/2012; PackageReference: DKD36; PackageDescription: 36-Pin Plastic Small Outline, Body 15.9 x 11 mm, Pitch 0.65 mm; Supplier 1: Digi-Key; Supplier Part Number 1: TAS5152DKDR-ND; Supplier 2: Mouser; Supplier Part Number 2: 595-TAS5152DKDR; Eco-Plan: Green (RoHS & no Sb/Br); Mounting Technology: Surface Mount; ComponentLink1Description: Manufacturer URL; ComponentLink1URL: http://www.ti.com/; ComponentLink2Description: Datasheet; ComponentLink2URL: http://www.ti.com/general/docs/lit/getliterature.tsp?genericPartNumber=TAS5152&fileType=pdf; ComponentLink3Description: Package Specification; ComponentLink3URL: http://www.ti.com/lit/ds/symlink/tas5121i.pdf
footprint TI-DKD36_N (SOP, 36-Leads, Body 16x11.1mm, Pitch 0.65mm, IPC Medium Density)
footprint TI-DKD36_L (SOP, 36-Leads, Body 16x11.1mm, Pitch 0.65mm, IPC High Density)
footprint TI-DKD36_M (SOP, 36-Leads, Body 16x11.1mm, Pitch 0.65mm, IPC Low Density)
part A pins: 2 ~{OTW} (oc) "Overtemperature warning signal, open-drain, active-low", 3 ~{SD} (oc) "Shutdown signal, open-drain, active-low", 4 PWM_A (in) "Input signal for half-bridge A", 5 ~{RESET_AB} (in) "Reset signal for half-bridge A and half-bridge B, active-low", 6 PWM_B (in) "Input signal for half-bridge B", 7 OC_ADJ (in) "Analog overcurrent programming pin requires resistor to ground", 10 VREG "Digital regulator supply filter pin requires 0.1-uFcapacitor to AGND.", 11 M3 (in) "Mode selection pin", 12 M2 (in) "Mode selection pin", 13 M1 (in) "Mode selection pin", 14 PWM_C (in) "Input signal for half-bridge C", 15 ~{RESET_CD} (in) "Reset signal for half-bridge C and half-bridge D, active-low", 16 PWM_D (in) "Input signal for half-bridge D", 20 BST_D "HS bootstrap supply (BST), external capacitor to OUT_D required", 22 OUT_D (hiz) "Output, half-bridge D", 25 OUT_C (hiz) "Output, half-bridge C", 27 BST_C "HS bootstrap supply (BST), external capacitor to OUT_C required", 28 BST_B "HS bootstrap supply (BST), external capacitor to OUT_B required", 30 OUT_B (hiz) "Output, half-bridge B", 33 OUT_A (hiz) "Output, half-bridge A", 35 BST_A "HS bootstrap supply (BST), external capacitor to OUT_A required"
part B pins: 1 GVDD_B (power) "Gate-drive voltage supply requires 0.1-uFcapacitor to AGND", 8 GND (power) "Ground", 9 AGND (power) "Analog ground", 17 VDD (power) "Power supply for digital voltage regulator requires 0.1-uFcapacitor to GND", 18 GVDD_C (power) "Gate-drive voltage supply requires 0.1-uFcapacitor to AGND", 19 GVDD_D (power) "Gate-drive voltage supply requires 0.1-uFcapacitor to AGND", 21 PVDD_D (power) "Power supply input for half-bridge D requires close decoupling of 0.1-uFcapacitor to GND_D.", 23 GND_D (power) "Power ground for half-bridge D", 24 GND_C (power) "Power ground for half-bridge C", 26 PVDD_C (power) "Power supply input for half-bridge C requires close decoupling of 0.1-uFcapacitor to GND_C.", 29 PVDD_B (power) "Power supply input for half-bridge B requires close decoupling of 0.1-uFcapacitor to GND_B.", 31 GND_B (power) "Power ground for half-bridge B", 32 GND_A (power) "Power ground for half-bridge A", 34 PVDD_A (power) "Power supply input for half-bridge A requires close decoupling of 0.1-uFcapacitor to GND_A.", 36 GVDD_A (power) "Gate-drive voltage supply requires 0.1-uFcapacitor to AGND"

## TAS5152DKDRG4
designator U?
125 W Stereo Digital Amplifier Power Stage, 0 to 70 degC, 36-pin SOP (DKD36), Green (RoHS & no Sb/Br); Manufacturer: Texas Instruments; PartNumber: TAS5152DKDRG4; Analog Supply Max [V]: 13.2; Analog Supply Min [V]: 10.8; Input Type: PWM; Max. Number of Speaker Outputs: 4; SubFamily: Mid/High-Power Amplifier; DatasheetVersion: SLES127A; PackageVersion: 4204421-2/K, 06/2012; PackageReference: DKD36; PackageDescription: 36-Pin Plastic Small Outline, Body 15.9 x 11 mm, Pitch 0.65 mm; Supplier 1: Digi-Key; Supplier Part Number 1: TAS5152DKDRG4-ND; Supplier 2: Mouser; Supplier Part Number 2: 595-TAS5152DKDRG4; Eco-Plan: Green (RoHS & no Sb/Br); Mounting Technology: Surface Mount; ComponentLink1Description: Manufacturer URL; ComponentLink1URL: http://www.ti.com/; ComponentLink2Description: Datasheet; ComponentLink2URL: http://www.ti.com/general/docs/lit/getliterature.tsp?genericPartNumber=TAS5152&fileType=pdf; ComponentLink3Description: Package Specification; ComponentLink3URL: http://www.ti.com/lit/ds/symlink/tas5121i.pdf
footprint TI-DKD36_N (SOP, 36-Leads, Body 16x11.1mm, Pitch 0.65mm, IPC Medium Density)
footprint TI-DKD36_L (SOP, 36-Leads, Body 16x11.1mm, Pitch 0.65mm, IPC High Density)
footprint TI-DKD36_M (SOP, 36-Leads, Body 16x11.1mm, Pitch 0.65mm, IPC Low Density)
part A pins: 2 ~{OTW} (oc) "Overtemperature warning signal, open-drain, active-low", 3 ~{SD} (oc) "Shutdown signal, open-drain, active-low", 4 PWM_A (in) "Input signal for half-bridge A", 5 ~{RESET_AB} (in) "Reset signal for half-bridge A and half-bridge B, active-low", 6 PWM_B (in) "Input signal for half-bridge B", 7 OC_ADJ (in) "Analog overcurrent programming pin requires resistor to ground", 10 VREG "Digital regulator supply filter pin requires 0.1-uFcapacitor to AGND.", 11 M3 (in) "Mode selection pin", 12 M2 (in) "Mode selection pin", 13 M1 (in) "Mode selection pin", 14 PWM_C (in) "Input signal for half-bridge C", 15 ~{RESET_CD} (in) "Reset signal for half-bridge C and half-bridge D, active-low", 16 PWM_D (in) "Input signal for half-bridge D", 20 BST_D "HS bootstrap supply (BST), external capacitor to OUT_D required", 22 OUT_D (hiz) "Output, half-bridge D", 25 OUT_C (hiz) "Output, half-bridge C", 27 BST_C "HS bootstrap supply (BST), external capacitor to OUT_C required", 28 BST_B "HS bootstrap supply (BST), external capacitor to OUT_B required", 30 OUT_B (hiz) "Output, half-bridge B", 33 OUT_A (hiz) "Output, half-bridge A", 35 BST_A "HS bootstrap supply (BST), external capacitor to OUT_A required"
part B pins: 1 GVDD_B (power) "Gate-drive voltage supply requires 0.1-uFcapacitor to AGND", 8 GND (power) "Ground", 9 AGND (power) "Analog ground", 17 VDD (power) "Power supply for digital voltage regulator requires 0.1-uFcapacitor to GND", 18 GVDD_C (power) "Gate-drive voltage supply requires 0.1-uFcapacitor to AGND", 19 GVDD_D (power) "Gate-drive voltage supply requires 0.1-uFcapacitor to AGND", 21 PVDD_D (power) "Power supply input for half-bridge D requires close decoupling of 0.1-uFcapacitor to GND_D.", 23 GND_D (power) "Power ground for half-bridge D", 24 GND_C (power) "Power ground for half-bridge C", 26 PVDD_C (power) "Power supply input for half-bridge C requires close decoupling of 0.1-uFcapacitor to GND_C.", 29 PVDD_B (power) "Power supply input for half-bridge B requires close decoupling of 0.1-uFcapacitor to GND_B.", 31 GND_B (power) "Power ground for half-bridge B", 32 GND_A (power) "Power ground for half-bridge A", 34 PVDD_A (power) "Power supply input for half-bridge A requires close decoupling of 0.1-uFcapacitor to GND_A.", 36 GVDD_A (power) "Gate-drive voltage supply requires 0.1-uFcapacitor to AGND"